# Altium schematic symbol library LM2662M.SchLib: 1 symbol
Pins are listed as number, name and electrical type; pins without a type are passive.

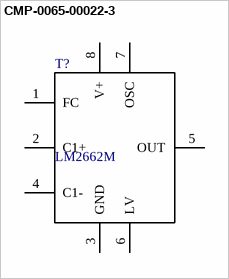
[diagram p0: symbol CMP-0065-00022-3]

## CMP-0065-00022-3
designator T?, comment LM2662M
Switched Capacitor Voltage Converter, 8-pin Narrow SOIC; Manufacturer: Texas Instruments; PackageTopMarking: NSZXTT*LM26*62M; PowerWise: N; CompType: Switch Caps; IsStocked: 1; PackageDescription: SOIC Narrow, 4.9 x 3.9 x 1.45mm, 8 Lead, 1.27mm Pitch; ComponentLink1URL: http://www.ti.com/general/docs/lit/getliterature.tsp?genericPartNumber=LM2662&fileType=pdf; PackageReference: D0008A; PinCount: 8; Code_JEDEC: MS-012-AA; ComponentLink1Description: Datasheet URL; RoHS: N; Code_IPC: SOIC127P600-8; PN: LM2662M; Supplier 1: Farnell; Supplier Part Number 1: 9306803; Supplier Price 1: 2.51
footprint D0008A_N (SOIC, 8-Leads, Body 5x4mm, Pitch 1.27mm, IPC Medium Density)
footprint D0008A_L (SOIC, 8-Leads, Body 5x4mm, Pitch 1.27mm, IPC High Density)
footprint D0008A_M (SOIC, 8-Leads, Body 5x4mm, Pitch 1.27mm, IPC Low Density)
pins: 1 FC (power), 2 C1+ (power), 3 GND (power), 4 C1- (power), 5 OUT (power), 6 LV (power), 7 OSC (power), 8 V+ (power)